# Altium schematic symbol library PraxisIII.SchLib: 5 symbols
Pins are listed as number, name and electrical type; pins without a type are passive.

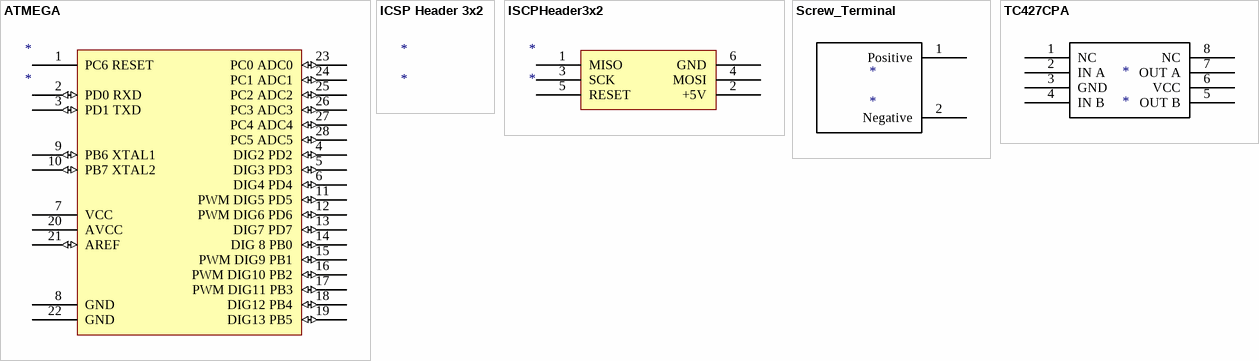
[diagram p0: symbols ATMEGA to TC427CPA]

## ATMEGA
designator *
pins: 1 PC6 RESET, 2 PD0 RXD (io), 3 PD1 TXD (io), 4 DIG2 PD2 (io), 5 DIG3 PD3 (io), 6 DIG4 PD4 (io), 7 VCC (power), 8 GND (power), 9 PB6 XTAL1 (io), 10 PB7 XTAL2 (io), 11 PWM DIG5 PD5 (io), 12 PWM DIG6 PD6 (io), 13 DIG7 PD7 (io), 14 DIG 8 PB0 (io), 15 PWM DIG9 PB1 (io), 16 PWM DIG10 PB2 (io), 17 PWM DIG11 PB3 (io), 18 DIG12 PB4 (io), 19 DIG13 PB5 (io), 20 AVCC (power), 21 AREF (io), 22 GND (power), 23 PC0 ADC0 (io), 24 PC1 ADC1 (io), 25 PC2 ADC2 (io), 26 PC3 ADC3 (io), 27 PC4 ADC4 (io), 28 PC5 ADC5 (io)

## ICSP Header 3x2
designator *

## ISCPHeader3x2
designator *
footprint 3x2 Header
pins: 1 MISO, 2 +5V, 3 SCK, 4 MOSI, 5 RESET, 6 GND

## Screw_Terminal
designator *
pins: 1 Positive, 2 Negative

## TC427CPA
designator *
pins: 1 NC, 2 IN A, 3 GND, 4 IN B, 5 OUT B, 6 VCC, 7 OUT A, 8 NC